# EAGLE library part DRV8825 (library drv_8825)
Stepper motor driver DRV8825
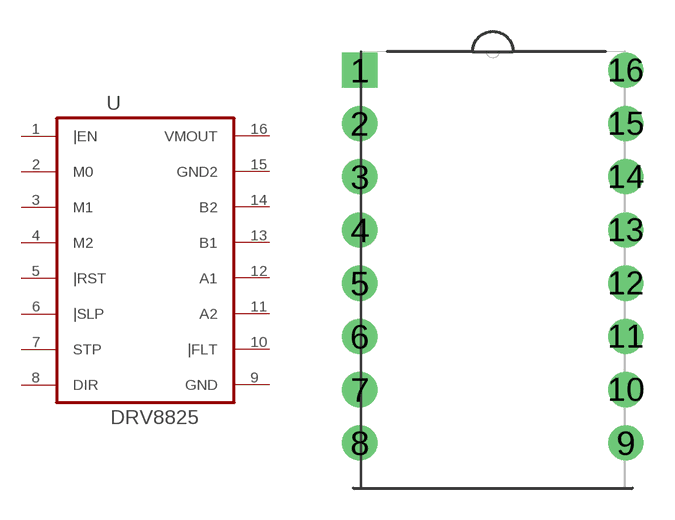
[diagram p0: symbol with the pads of DRV8825; footprint DRV8825]

Designator prefix U

## DRV8825 (AVAILABILITY: Unavailable; DESCRIPTION: 1 Pack DRV8825-PU DIP-16; MF: Generic; MP: DRV8825; PACKAGE: DIP-16 Generic; PRICE: None)  [DRV8825]
1  |EN
2  M0
3  M1
4  M2
5  |RST
6  |SLP
7  STP
8  DIR
9  GND
10  |FLT
11  A2
12  A1
13  B1
14  B2
15  GND2
16  VMOUT

## Footprint DRV8825 (pad centres in mm)
drill 1.118 square: 1 -11.43,17.78
drill 1.118: 2 -11.43,15.24; 3 -11.43,12.7; 4 -11.43,10.16; 5 -11.43,7.62; 6 -11.43,5.08; 7 -11.43,2.54; 8 -11.43,0; 9 1.27,0; 10 1.27,2.54; 11 1.27,5.08; 12 1.27,7.62; 13 1.27,10.16; 14 1.27,12.7; 15 1.27,15.24; 16 1.27,17.78